# Altium schematic symbol library DAC8552_Dream.SchLib: 1 symbol
Pins are listed as number, name and electrical type; pins without a type are passive.

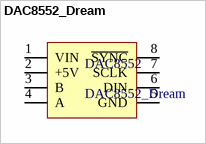
[diagram p0: symbol DAC8552_Dream]

## DAC8552_Dream
designator DAC8552
footprint DAC8552
pins: 1 VIN (power), 2 +5V (power), 3 B (power), 4 A (power), 5 GND (power), 6 DIN (power), 7 SCLK (power), 8 ~{SYNC} (power)